# Altium footprint library SWITCH_3D.PcbLib: 6 footprints
Each footprint in its own frame and in the unit in brackets; x right, y up, seen from the top. Pads: shape width x height; smd on the part's side, far side on the other; paste and mask are expansions set on the pad; w line width, h text height; cw(c..) or ccw(c..) is an arc to the next point about the centre after c.
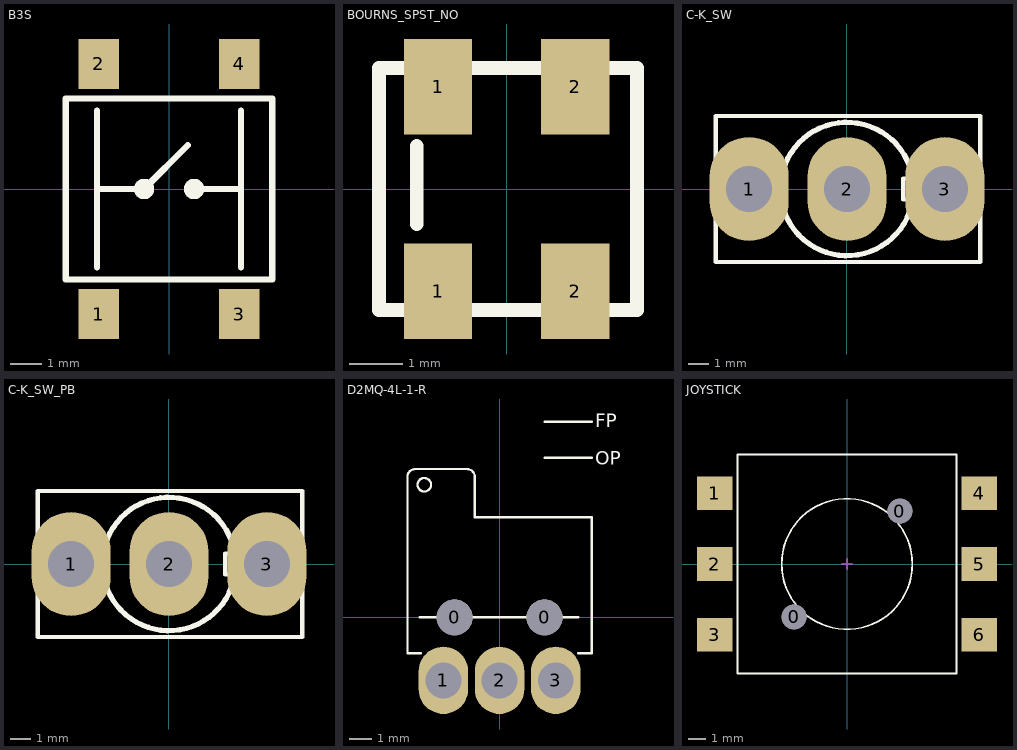
[diagram p0: the footprints below, top view; thin cyan lines are the x and y axes]

## B3S [mm] "Push Button"
height 4.3
pads (4):
  rect 1.3x1.6 smd: 1(-2.25,-4) 2(-2.25,4) 3(2.25,-4) 4(2.25,4)
Top Overlay:
  circle w0.254: c0.8,0 r0.2
  circle w0.254: c-0.8,0 r0.2
  lines w0.2: -2.3,-2.5 -2.3,2.5 ; -2.3,0 -0.8,0 0.6,1.4 ; 0.8,0 2.3,0 ; 2.3,-2.5 2.3,2.5 ; -3.3,-2.9 -3.3,2.9 0,2.9 3.3,2.9 3.3,-2.9 -3.3,-2.9
3D body: height 1.8, standoff 1.5, extent 3.1,-3 3.3,3
3D body: height 3.2, standoff 1.8, extent 3.1,-3 3.3,-2.1
3D body: height 3.2, standoff 1.8, extent 3.1,2.1 3.3,3
3D body: height 3.2, standoff 1.8, extent -3.3,-3 -3.1,-2.1
3D body: height 3.2, standoff 1.8, extent -3.3,2.1 -3.1,3
3D body: height 1.8, standoff 1.5, extent -3.3,-3 -3.1,3
3D body: height 3.4, standoff 3.2, extent -3.3,-3 3.3,3
3D body: height 3.2, standoff 0, extent -3.1,-3 3.1,3
3D body: height 0.2, standoff 0, extent -2.6,3.3 -1.9,4.5
3D body: height 0.5, standoff 0.3, extent -2.6,3 -1.9,3.3
3D body: height 0.5, standoff 0, extent -2.6,3.2 -1.9,3.3
3D body: height 0.5, standoff 0, extent -2.6,-3.3 -1.9,-3.2
3D body: height 0.5, standoff 0.3, extent -2.6,-3.3 -1.9,-3
3D body: height 0.2, standoff 0, extent -2.6,-4.5 -1.9,-3.3
3D body: height 0.5, standoff 0, extent 1.9,-3.3 2.6,-3.2
3D body: height 0.5, standoff 0.3, extent 1.9,-3.3 2.6,-3
3D body: height 0.2, standoff 0, extent 1.9,-4.5 2.6,-3.3
3D body: height 0.5, standoff 0, extent 1.9,3.2 2.6,3.3
3D body: height 0.5, standoff 0.3, extent 1.9,3 2.6,3.3
3D body: height 0.2, standoff 0, extent 1.9,3.3 2.6,4.5
3D body: height 4.3, standoff 3.4, extent -1.65,-1.65 1.637,1.643

## BOURNS_SPST_NO [mm] "BOURNS 7914J-001-000"
height 4
pads (4):
  rect 1.27x1.78 smd: 1(-1.275,-1.9) 1(-1.275,1.9) 2(1.275,-1.9) 2(1.275,1.9)
Top Overlay:
  lines w0.254: -1.675,-0.65 -1.675,0.8 ; -2.375,-2.25 -2.375,2.25 2.425,2.25 2.425,-2.25 -2.375,-2.25
3D body: height 2.65, standoff 2.6, extent -2,1.5 -1.725,1.675
3D body: height 2.65, standoff 2.6, extent -2,1.4 -1.725,1.575
3D body: height 2.65, standoff 2.6, extent -2,1.625 -1.725,1.8
3D body: height 2.65, standoff 2.6, extent -2,1.725 -1.725,1.9
3D body: height 2.65, standoff 2.6, extent -2,1.4 -1.95,1.9
3D body: height 0.2, standoff 0, extent -1.7,1.5 -0.9,2.5
3D body: height 1.3, standoff 0, extent -1.7,2.3 -0.9,2.5
3D body: height 0.2, standoff 0, extent 0.9,1.5 1.7,2.5
3D body: height 1.3, standoff 0, extent 0.9,2.3 1.7,2.5
3D body: height 0.2, standoff 0, extent 0.9,-2.5 1.7,-1.5
3D body: height 1.3, standoff 0, extent 0.9,-2.5 1.7,-2.3
3D body: height 1.3, standoff 0, extent -1.7,-2.5 -0.9,-2.3
3D body: height 0.2, standoff 0, extent -1.7,-2.5 -0.9,-1.5
3D body: height 2.6, standoff 0.2, extent -2.4,-2.3 2.4,2.3
3D body: height 4, standoff 2.6, extent -1.2,-1.2 1.191,1.195
3D body: height 2.7, standoff 1, extent 2.3,-0.7 2.5,0.7
3D body: height 2.7, standoff 1, extent -2.5,-0.7 -2.3,0.7

## C-K_SW [mm] "SPDT Switch"
height 12
pads (3):
  oval 3.8x5 hole 2.2: 1(-4.7,0) 2(0,0) 3(4.7,0)
Top Overlay:
  lines w0.2: 3.159,0.51 2.7,0.5 2.7,-0.5 3.162,-0.494 ; -6.3,-3.5 -6.3,3.5 6.4,3.5 6.4,-3.5 -6.3,-3.5
  lines w0.254: 3.159,0.51 ccw(c0,0) 3.162,-0.494
3D body: height 16.8, standoff 9.8, extent 3.1,-0.5 3.2,0.5
3D body: height 16.8, standoff 9.8, extent -3.2,-3.2 3.175,3.187
3D body: height 22.85, standoff 15.49, extent -1.2,-1.2 3.925,1.195
3D body: height 9.8, standoff 0, extent -6.3,-3.5 6.4,3.5
3D body: height 1.5, standoff 0, extent -0.4,-1 0.4,1
3D body: height 1.5, standoff 0, extent -5.1,-1 -4.3,1
3D body: height 1.5, standoff 0, extent 4.3,-1 5.1,1

## C-K_SW_PB [mm] "SPST Push Button"
height 12
pads (3):
  oval 3.8x5 hole 2.2: 1(-4.7,0) 2(0,0) 3(4.7,0)
Top Overlay:
  lines w0.2: 3.159,0.51 2.7,0.5 2.7,-0.5 3.162,-0.494 ; -6.3,-3.5 -6.3,3.5 6.4,3.5 6.4,-3.5 -6.3,-3.5
  lines w0.254: 3.159,0.51 ccw(c0,0) 3.162,-0.494
3D body: height 16.8, standoff 9.8, extent -3.2,-3.2 3.175,3.187
3D body: height 21.5, standoff 16, extent -1.494,-1.5 1.494,1.494
3D body: height 9.8, standoff 0, extent -6.3,-3.5 6.4,3.5
3D body: height 1.5, standoff 0, extent -0.4,-1 0.4,1
3D body: height 1.5, standoff 0, extent -5.1,-1 -4.3,1
3D body: height 1.5, standoff 0, extent 4.3,-1 5.1,1

## D2MQ-4L-1-R [mm] "OMRON Micro-Switch SPDT"
height 2.7
pads (5):
  round 1.6 hole 1.6 unplated: 0(-2,0) 0(2,0)
  oval 2.2x3 hole 1.6: 1(-2.5,-2.8) 2(0,-2.8) 3(2.5,-2.8)
Top Overlay:
  circle w0.1: c-3.35,5.9 r0.3
  lines w0.1: -3.55,0 3.5,0 ; -3.5,-1.6 -4.1,-1.6 -4.1,6.25 cw(c-3.75,6.25) -3.75,6.6 -1.45,6.6 cw(c-1.45,6.25) -1.1,6.25 -1.1,4.45 4.1,4.45 4.1,-1.6 3.5,-1.6 ; 2,7.1 4.1,7.1 ; 2,8.7 4.1,8.7
  text "OP" at 4.25,6.8 h0.6
  text "FP" at 4.25,8.45 h0.6
3D body: height 1.65, standoff 1.05, extent 1.9,-3.1 3.1,-1.6
3D body: height 1.65, standoff -1.6, extent 1.9,-3.1 3.1,-2.5
3D body: height 1.65, standoff 1.05, extent -3.1,-3.1 -1.9,-1.6
3D body: height 1.65, standoff -1.6, extent -3.1,-3.1 -1.9,-2.5
3D body: height 1.65, standoff -1.6, extent -0.6,-3.1 0.6,-2.5
3D body: height 1.65, standoff 1.05, extent -0.6,-3.1 0.6,-1.6
3D body: height 2.75, standoff 0, extent -2.808,-0.808 -1.192,0.808
3D body: height 2.75, standoff 0, extent 1.192,-0.808 2.808,0.808
3D body: height 2.75, standoff 0, extent -3.655,5.595 -3.045,6.205
3D body: height 2.7, standoff 0, extent -4.107,-1.601 4.101,6.607
3D body: height 2.65, standoff 0.05, extent -3.691,6 3.4,7.111
3D body: height 2.65, standoff 0.05, extent -3.771,5.365 3.272,8.834

## JOYSTICK [mm] "Joystick 4 Direction + Push"
height 12.2
pads (8):
  round 1.4 hole 1.4 unplated: 0(-3,-3) 0(3,3)
  rect 2x1.9 smd: 1(-7.5,4) 2(-7.5,0) 3(-7.5,-4) 4(7.5,4) 5(7.5,0) 6(7.5,-4)
Top Overlay:
  circle w0.1: c0,0 r3.7
  lines w0.1: -6.2,-6.2 -6.2,6.2 6.2,6.2 6.2,-6.2 -6.2,-6.2
Pick¬Place:
  lines w0.1: -0.3,0 0.3,0 ; 0,-0.3 0,0.3
3D body: height 24, standoff 16, extent -4,-4 3.958,3.966
3D body: height 5.21, standoff 5.2, extent 4.8,-0.356 5.506,0.956
3D body: height 5.21, standoff 5.2, extent -0.275,-5.568 0.462,-4.25
3D body: height 0.2, standoff 0, extent 7,-4.5 8.2,-3.5
3D body: height 0.8, standoff 0, extent 7,-4.5 7.2,-3.5
3D body: height 0.8, standoff 0.6, extent 6.2,-4.5 7.2,-3.5
3D body: height 0.2, standoff 0, extent 7,-0.5 8.2,0.5
3D body: height 0.8, standoff 0, extent 7,-0.5 7.2,0.5
3D body: height 0.8, standoff 0.6, extent 6.2,-0.5 7.2,0.5
3D body: height 0.2, standoff 0, extent 7,3.5 8.2,4.5
3D body: height 0.8, standoff 0, extent 7,3.5 7.2,4.5
3D body: height 0.8, standoff 0.6, extent 6.2,3.5 7.2,4.5
3D body: height 0.2, standoff 0, extent -8.2,-4.5 -7,-3.5
3D body: height 0.8, standoff 0, extent -7.2,-4.5 -7,-3.5
3D body: height 0.8, standoff 0.6, extent -7.2,-4.5 -6.2,-3.5
3D body: height 0.2, standoff 0, extent -8.2,-0.5 -7,0.5
3D body: height 0.8, standoff 0, extent -7.2,-0.5 -7,0.5
3D body: height 0.8, standoff 0.6, extent -7.2,-0.5 -6.2,0.5
3D body: height 0.8, standoff 0.6, extent -7.2,3.5 -6.2,4.5
3D body: height 0.8, standoff 0, extent -7.2,3.5 -7,4.5
3D body: height 0.2, standoff 0, extent -8.2,3.5 -7,4.5
3D body: height 5.2, standoff 5, extent -6.2,-6.2 6.2,6.2
3D body: height 6.5, standoff 5, extent -3.4,-3.4 3.373,3.387
3D body: height 5.8, standoff 5, extent -6.2,4.2 -4.208,6.196
3D body: height 5, standoff 0, extent -6.2,-6.2 6.2,6.2
3D body: height 5.8, standoff 5, extent -6.2,-6.196 -4.208,-4.2
3D body: height 5.8, standoff 5, extent 4.2,-6.196 6.192,-4.2
3D body: height 5.8, standoff 5, extent 4.2,4.204 6.192,6.2
3D body: height 5.21, standoff 5.2, extent -0.625,4.3 0.475,5.6
3D body: height 5.21, standoff 5.2, extent -5.15,-0.505 -4.473,0.803
3D body: height 18.5, standoff 6.5, extent -2,-2 1.984,1.992